# EAGLE library part ATMEL_PROGRAMMER_HEADER (library ERIC)
Board connector for Atmel MkII ISP programmer
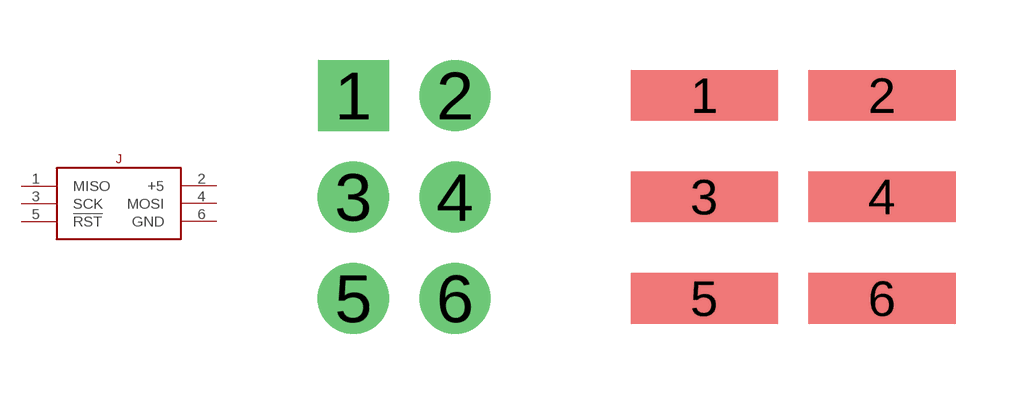
[diagram p2: symbol with the pads of ATMEL_PROGRAMMER_HEADER; footprints ATMEL_PROGRAMMER_HEADER, HEADER_6_POSITION_SMD]

Designator prefix J

## ATMEL_PROGRAMMER_HEADERTH  [ATMEL_PROGRAMMER_HEADER]
1  MISO
2  +5  pwr
3  SCK  in
4  MOSI
5  !RST!  in
6  GND  pwr

## ATMEL_PROGRAMMER_HEADERSMD  [HEADER_6_POSITION_SMD]
Pads as for ATMEL_PROGRAMMER_HEADER

## ATMEL_PROGRAMMER_HEADERNL  [TC2030-INC-NL]
Pads as for ATMEL_PROGRAMMER_HEADER

## ATMEL_PROGRAMMER_HEADERPLUGOFNAILS  [TC2030-IDC]
Pads as for ATMEL_PROGRAMMER_HEADER

## Footprint ATMEL_PROGRAMMER_HEADER (pad centres in mm)
drill 1 pad 1.778 square: 1 -1.27,2.54
drill 1 pad 1.778: 2 1.27,2.54; 3 -1.27,0; 4 1.27,0; 5 -1.27,-2.54; 6 1.27,-2.54

## Footprint HEADER_6_POSITION_SMD (pad centres in mm)
smd 3.683 x 1.27: 1 -2.223,2.54; 2 2.223,2.54; 3 -2.223,0; 4 2.223,0; 5 -2.223,-2.54; 6 2.223,-2.54

## Footprint TC2030-INC-NL (pad centres in mm)
Surface Mount Programming Header
smd 0.787 x 0.787: 1 1.27,-0.635; 2 1.27,0.635; 3 2.54,-0.635; 4 2.54,0.635; 5 3.81,-0.635; 6 3.81,0.635
hole 0.991 at 0,0
hole 0.991 at 5.08,1.016
hole 0.991 at 5.08,-1.016

## Footprint TC2030-IDC (pad centres in mm)
smd 0.787 x 0.787: 1 1.27,-0.635; 2 1.27,0.635; 3 2.54,-0.635; 4 2.54,0.635; 5 3.81,-0.635; 6 3.81,0.635
hole 0.991 at 0,0
hole 0.991 at 5.08,1.016
hole 0.991 at 5.08,-1.016
hole 2.375 at 0,2.54
hole 2.375 at 0,-2.54
hole 2.375 at 3.175,2.54
hole 2.375 at 3.175,-2.54